# Altium schematic symbol library 53261-0571.SchLib: 1 symbol
Pins are listed as number, name and electrical type; pins without a type are passive.

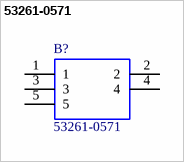
[diagram p0: symbol 53261-0571]

## 53261-0571
designator B?
Molex PICOBLADE Series, Series Number 53261, 1.25mm Pitch 5 Way 1 Row Right Angle PCB Header, Solder Termination, 1A; Geometry.Height: mm; Supplier_Name: RS; RS Part Number: 5427270; Manufacturer_Name: Molex; Manufacturer_Part_Number: 53261-0571; Allied_Number: *; Other Part Number: *; Datasheet Link: http://it.rs-online.com/web/p/file-di-contatti-da-pcb/5427270P/; 3D Package: *
footprint 53261-0571
pins: 1, 2, 3, 4, 5